# Altium schematic symbol library SCH - PASSIVES - CONFIG RESISTOR.SCHLIB: 1 symbol
Pins are listed as number, name and electrical type; pins without a type are passive.

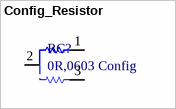
[diagram p0: symbol Config_Resistor]

## Config_Resistor
designator RC?, comment 0R,0603 Config
Solder 0603 resistor/jumper between pads 1 and 2 for standard function. Solter resistor between pads 2 and 3 for alternative function
pins: 1, 2, 3